# Altium footprint library PCB.PcbLib: 9 footprints
Each footprint in its own frame and in the unit in brackets; x right, y up, seen from the top. Pads: shape width x height; smd on the part's side, far side on the other; paste and mask are expansions set on the pad; w line width, h text height; cw(c..) or ccw(c..) is an arc to the next point about the centre after c.
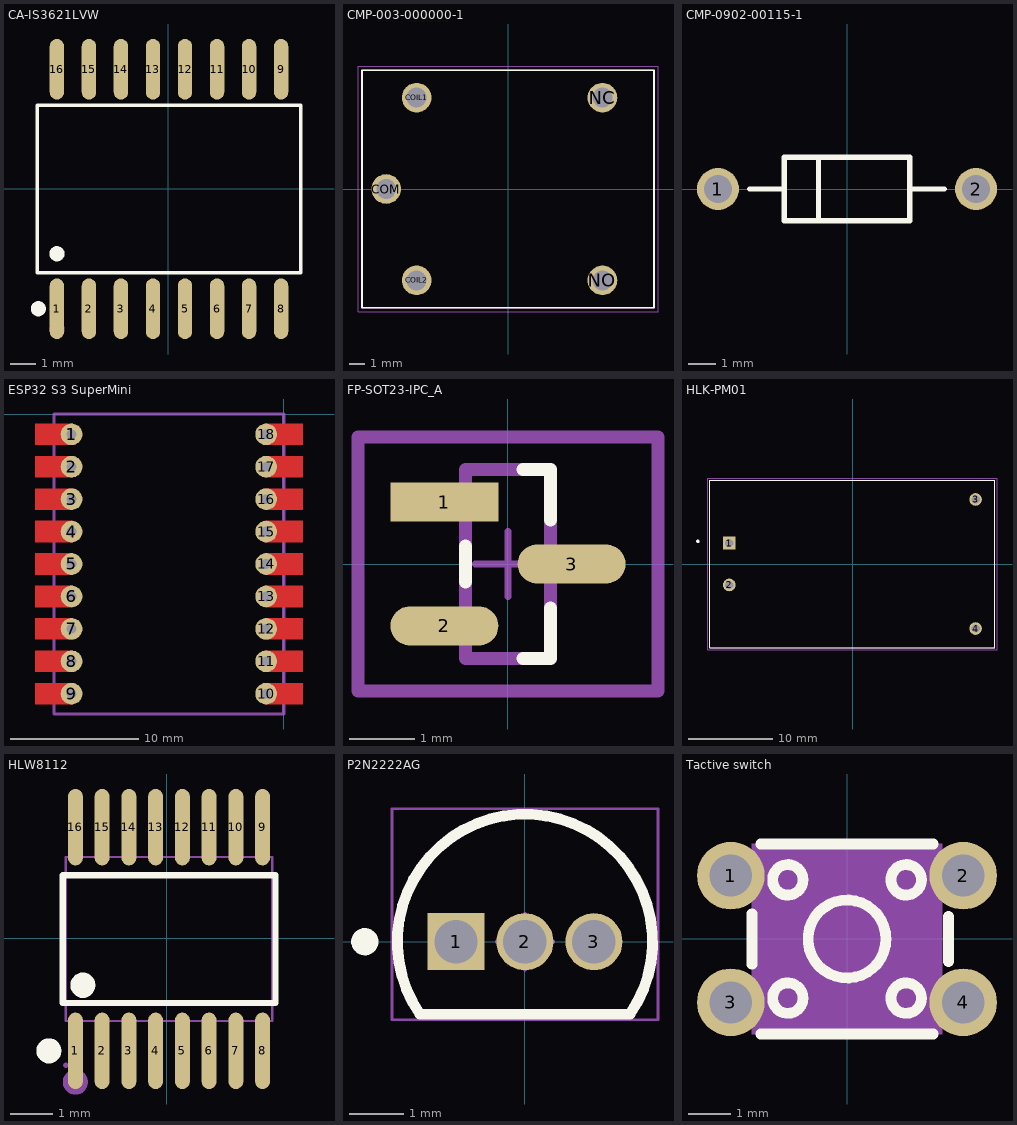
[diagram p0: the footprints below, top view; thin cyan lines are the x and y axes]

## CA-IS3621LVW [mm]
pads (16):
  oval 0.574x2.401 smd paste+0 mask+0.051: 1(-4.419,-4.769) 2(-3.149,-4.769) 3(-1.879,-4.769) 4(-0.609,-4.769) 5(0.661,-4.769) 6(1.931,-4.769) 7(3.201,-4.769) 8(4.471,-4.769) 9(4.471,4.732) 10(3.201,4.732) 11(1.931,4.732) 12(0.661,4.732) 13(-0.609,4.732) 14(-1.879,4.732) 15(-3.149,4.732) 16(-4.419,4.732)
Top Overlay:
  circle w0.3: c-4.419,-2.587 r0.15
  circle w0.3: c-5.158,-4.769 r0.15
  lines w0.152: -5.2,-3.34 -5.2,3.303 5.252,3.303 5.252,-3.34 -5.2,-3.34
Mechanical 15:
  circle w0.3: c-4.419,-5.581 r0.15
3D body "SO16 Wide 7.50mm.step": height 2.65, standoff 0, extent -5.15,-5.048 5.15,5.252

## CMP-003-000000-1 [mm]
pads (5):
  round 1.95 hole 1.3: COIL1(-6,6) COIL2(-6,-6) COM(-8,0) NC(6.2,6) NO(6.2,-6)
Top Overlay:
  lines w0.127: -9.6,-7.8 -9.6,7.8 9.6,7.8 9.6,-7.8 -9.6,-7.8
Mechanical 13:
  lines w0.127: -9.6,-7.8 -9.6,7.8 9.6,7.8 9.6,-7.8 -9.6,-7.8
Mechanical 15:
  lines w0.05: -9.85,-8.05 -9.85,8.05 9.85,8.05 9.85,-8.05 -9.85,-8.05
3D body "step_temp.STEP": height 15.8, standoff -3, extent -9.6,-7.8 9.6,7.8

## CMP-0902-00115-1 [mm]
pads (2):
  round 1.55 hole 1.05: 1(-4.77,0) 2(4.77,0)
Top Overlay:
  lines w0.2: -3.595,0 -2.325,0 ; -1.055,-1.175 -1.055,1.175 ; 2.325,0 3.595,0 ; -2.325,-1.175 2.325,-1.175 2.325,1.175 -2.325,1.175 -2.325,-1.175

## ESP32 S3 SuperMini [mm]
pads (18):
  round 1.7 hole 0.762: 1(-16.62,-1.59) 2(-16.62,-4.13) 3(-16.62,-6.67) 4(-16.62,-9.21) 5(-16.62,-11.75) 6(-16.62,-14.29) 7(-16.62,-16.83) 8(-16.62,-19.37) 9(-16.62,-21.91) 10(-1.38,-21.91) 11(-1.38,-19.37) 12(-1.38,-16.83) 13(-1.38,-14.29) 14(-1.38,-11.75) 15(-1.38,-9.21) 16(-1.38,-6.67) 17(-1.38,-4.13) 18(-1.38,-1.59)
Top Layer:
  rectangle: -19.5,-2.44 -16.5,-0.74
  rectangle: -19.5,-4.98 -16.5,-3.28
  rectangle: -19.5,-7.52 -16.5,-5.82
  rectangle: -19.5,-10.06 -16.5,-8.36
  rectangle: -19.5,-12.6 -16.5,-10.9
  rectangle: -19.5,-15.14 -16.5,-13.44
  rectangle: -19.5,-17.68 -16.5,-15.98
  rectangle: -19.5,-20.22 -16.5,-18.52
  rectangle: -19.473,-22.76 -16.473,-21.06
  rectangle: -1.5,-2.44 1.5,-0.74
  rectangle: -1.5,-4.98 1.5,-3.28
  rectangle: -1.5,-7.52 1.5,-5.82
  rectangle: -1.5,-10.06 1.5,-8.36
  rectangle: -1.5,-12.6 1.5,-10.9
  rectangle: -1.5,-15.14 1.5,-13.44
  rectangle: -1.5,-17.68 1.5,-15.98
  rectangle: -1.5,-20.22 1.5,-18.52
  rectangle: -1.473,-22.76 1.527,-21.06
Top Solder:
  region: 1.431,-21.138 -1.5,-21.138 -1.5,-22.687 1.431,-22.687
  region: 1.431,-18.598 -1.5,-18.598 -1.5,-20.147 1.431,-20.147
  region: 1.431,-16.058 -1.5,-16.058 -1.5,-17.607 1.431,-17.607
  region: 1.431,-13.518 -1.5,-13.518 -1.5,-15.067 1.431,-15.067
  region: 1.431,-10.978 -1.5,-10.978 -1.5,-12.527 1.431,-12.527
  region: 1.431,-8.438 -1.5,-8.438 -1.5,-9.987 1.431,-9.987
  region: 1.431,-5.898 -1.5,-5.898 -1.5,-7.447 1.431,-7.447
  region: 1.431,-3.358 -1.5,-3.358 -1.5,-4.907 1.431,-4.907
  region: 1.431,-0.818 -1.5,-0.818 -1.5,-2.367 1.431,-2.367
  rectangle: -19.431,-22.682 -16.5,-21.133
  rectangle: -19.431,-20.142 -16.5,-18.593
  rectangle: -19.431,-17.602 -16.5,-16.053
  rectangle: -19.431,-15.062 -16.5,-13.513
  rectangle: -19.431,-12.522 -16.5,-10.973
  rectangle: -19.431,-9.982 -16.5,-8.433
  rectangle: -19.431,-7.442 -16.5,-5.893
  rectangle: -19.431,-4.902 -16.5,-3.353
  rectangle: -19.431,-2.362 -16.5,-0.813
Mechanical 1:
  lines w0.254: -18,-23.5 0,-23.5 0,0 -18,0 -18,-23.5
3D body "ESP32-S3_Zero.step": height 4.91, standoff -0.01, extent -18.034,-23.485 -0.034,1.065

## FP-SOT23-IPC_A [mm]
pads (3):
  rect 1.655x0.602 smd paste+0 mask+0: 1(-0.975,0.95)
  rrect100% 1.655x0.602 smd paste+0 mask+0: 2(-0.975,-0.95) 3(0.975,0)
Top Overlay:
  lines w0.2: -0.65,-0.274 -0.65,0.274 ; 0.227,-1.45 0.65,-1.45 0.65,-0.676 ; 0.227,1.45 0.65,1.45 0.65,0.676
Top Assembly:
  lines w0.2: -2.303,-1.95 -2.303,1.95 2.303,1.95 2.303,-1.95 -2.303,-1.95
  text ".Designator" at 0,-0.001 h1
Top Courtyard:
  lines w0.2: -2.303,-1.95 -2.303,1.95 2.303,1.95 2.303,-1.95 -2.303,-1.95 ; -0.65,-1.45 -0.65,1.45 0.65,1.45 0.65,-1.45 -0.65,-1.45
Top Component Center:
  lines w0.1: -0.5,0 0.5,0 ; 0,-0.5 0,0.5
3D body "Trans_Nexperia_BC817-40_215_eec.STEP": height 0.25, standoff 0, extent -2.303,-1.95 2.303,1.95

## HLK-PM01 [mm]
pads (4):
  rect 1.508x1.508 / inner round 1.508 / far side rect 1.508x1.508 hole 1: 1(-14.725,2.5)
  round 1.508 hole 1: 2(-14.725,-2.5) 3(14.675,7.7) 4(14.675,-7.7)
Top Overlay:
  circle w0.2: c-18.476,2.7 r0.1
  lines w0.127: -17.025,-10 16.975,-10 16.975,10 -17.025,10 -17.025,-10
Mechanical 13:
  circle w0.2: c-18.476,2.7 r0.1
  lines w0.127: -17.025,-10 16.975,-10 16.975,10 -17.025,10 -17.025,-10
Mechanical 15:
  lines w0.05: -17.275,-10.25 17.225,-10.25 17.225,10.25 -17.275,10.25 -17.275,-10.25
3D body "step_temp.STEP": height 15, standoff -5, extent -17.025,-10.1 16.975,10.1

## HLW8112 [mil]
pads (16):
  oval 14x71.4 smd: 1(-85.3,-105.3) 2(-60.3,-105.3) 3(-35.3,-105.3) 4(-10.3,-105.3) 5(14.7,-105.3) 6(39.7,-105.3) 7(64.7,-105.3) 8(89.7,-105.3) 9(89.7,103.8) 10(64.7,103.8) 11(39.7,103.8) 12(14.7,103.8) 13(-10.3,103.8) 14(-35.3,103.8) 15(-60.3,103.8) 16(-85.3,103.8)
Top Overlay:
  lines w6: -97.3,-60.6 101.8,-60.6 101.8,59 -97.3,59 -97.3,-60.6
  lines w11.8: -116,-105.3 -115.6,-103.3 -114.6,-101.5 -113,-100.2 -111.1,-99.5 -109.1,-99.5 -107.1,-100.2 -105.6,-101.5 -104.5,-103.3 -104.2,-105.3 -104.5,-107.3 -105.6,-109.1 -107.1,-110.4 -109.1,-111.1 -111.1,-111.1 -113,-110.4 -114.6,-109.1 -115.6,-107.3 -116,-105.3 ; -84.2,-43.9 -83.8,-41.9 -82.8,-40.1 -81.2,-38.8 -79.3,-38.1 -77.3,-38.1 -75.3,-38.8 -73.8,-40.1 -72.7,-41.9 -72.4,-43.9 -72.7,-46 -73.8,-47.7 -75.3,-49.1 -77.3,-49.8 -79.3,-49.8 -81.2,-49.1 -82.8,-47.7 -83.8,-46 -84.2,-43.9
Mechanical 2:
  lines w11.8: -91.2,-134.5 -90.8,-132.5 -89.8,-130.7 -88.2,-129.4 -86.3,-128.7 -84.3,-128.7 -82.3,-129.4 -80.8,-130.7 -79.7,-132.5 -79.4,-134.5 -79.7,-136.5 -80.8,-138.3 -82.3,-139.6 -84.3,-140.3 -86.3,-140.3 -88.2,-139.6 -89.8,-138.3 -90.8,-136.5 -91.2,-134.5
Mechanical 6:
  lines w2: -94.3,-77.4 98.8,-77.4 98.8,75.9 -94.3,75.9 -94.3,-77.4
Mechanical 7:
  region: -90.3,-93.8 -90.3,-77 -80.3,-77 -80.3,-93.8
  region: -65.3,-93.8 -65.3,-77 -55.3,-77 -55.3,-93.8
  region: -40.3,-93.8 -40.3,-77 -30.3,-77 -30.3,-93.8
  region: -15.3,-93.8 -15.3,-77 -5.3,-77 -5.3,-93.8
  region: 9.7,-93.8 9.7,-77 19.7,-77 19.7,-93.8
  region: 34.7,-93.8 34.7,-77 44.7,-77 44.7,-93.8
  region: 59.7,-93.8 59.7,-77 69.7,-77 69.7,-93.8
  region: 84.7,-93.8 84.7,-77 94.7,-77 94.7,-93.8
  region: -90.3,92.3 -90.3,75.5 -80.3,75.5 -80.3,92.3
  region: -65.3,92.3 -65.3,75.5 -55.3,75.5 -55.3,92.3
  region: -40.3,92.3 -40.3,75.5 -30.3,75.5 -30.3,92.3
  region: -15.3,92.3 -15.3,75.5 -5.3,75.5 -5.3,92.3
  region: 9.7,92.3 9.7,75.5 19.7,75.5 19.7,92.3
  region: 34.7,92.3 34.7,75.5 44.7,75.5 44.7,92.3
  region: 59.7,92.3 59.7,75.5 69.7,75.5 69.7,92.3
  region: 84.7,92.3 84.7,75.5 94.7,75.5 94.7,92.3
Mechanical 8:
  region: -92,-118.8 -92.3,-120 -93.4,-120.9 -94.7,-121.1 -95.9,-120.6 -96.6,-119.4 -96.6,-118.1 -95.9,-117 -94.7,-116.4 -93.4,-116.6 -92.3,-117.5
Mechanical 9:
  region: -90.3,-118.8 -90.3,-93.4 -80.3,-93.4 -80.3,-118.8
  region: -65.3,-118.8 -65.3,-93.4 -55.3,-93.4 -55.3,-118.8
  region: -40.3,-118.8 -40.3,-93.4 -30.3,-93.4 -30.3,-118.8
  region: -15.3,-118.8 -15.3,-93.4 -5.3,-93.4 -5.3,-118.8
  region: 9.7,-118.8 9.7,-93.4 19.7,-93.4 19.7,-118.8
  region: 34.7,-118.8 34.7,-93.4 44.7,-93.4 44.7,-118.8
  region: 59.7,-118.8 59.7,-93.4 69.7,-93.4 69.7,-118.8
  region: 84.7,-118.8 84.7,-93.4 94.7,-93.4 94.7,-118.8
  region: -90.3,117.3 -90.3,91.9 -80.3,91.9 -80.3,117.3
  region: -65.3,117.3 -65.3,91.9 -55.3,91.9 -55.3,117.3
  region: -40.3,117.3 -40.3,91.9 -30.3,91.9 -30.3,117.3
  region: -15.3,117.3 -15.3,91.9 -5.3,91.9 -5.3,117.3
  region: 9.7,117.3 9.7,91.9 19.7,91.9 19.7,117.3
  region: 34.7,117.3 34.7,91.9 44.7,91.9 44.7,117.3
  region: 59.7,117.3 59.7,91.9 69.7,91.9 69.7,117.3
  region: 84.7,117.3 84.7,91.9 94.7,91.9 94.7,117.3

## P2N2222AG [mm]
pads (3):
  rect 1.05x1.05 hole 0.8: 1(-1.27,0)
  round 1.05 hole 0.8: 2(0,0) 3(1.27,0)
Top Overlay:
  circle w0.25: c-2.95,0 r0.125
  lines w0.2: -1.934,-1.335 cw(c0,0) 1.934,-1.335 -1.934,-1.335
Mechanical 13:
  lines w0.1: -1.934,-1.335 cw(c0,0) 1.934,-1.335 -1.934,-1.335
Mechanical 15:
  lines w0.05: -2.45,-1.435 2.45,-1.435 2.45,2.45 -2.45,2.45 -2.45,-1.435
  lines w0.1: -0.5,0 0.5,0 ; 0,-0.5 0,0.5
3D body: height 7.87, standoff 2.54, extent -2.349,-1.334 2.357,2.359

## Tactive switch [mm]
pads (4):
  round 1.6 hole 1: 1(-2.75,1.5) 2(2.75,1.5) 3(-2.75,-1.5) 4(2.75,-1.5)
Top Overlay:
  circle w0.254: c0,0 r0.922
  circle w0.254: c1.4,1.4 r0.361
  circle w0.254: c-1.4,1.4 r0.361
  circle w0.254: c-1.4,-1.4 r0.361
  circle w0.254: c1.4,-1.4 r0.361
  lines w0.254: -2.25,-0.599 -2.25,0.598 ; -2.043,-2.25 2.043,-2.25 ; -2.044,2.25 2.044,2.25 ; 2.4,-0.53 2.4,0.53
Mechanical 4:
  region: -2.25,-2.25 -2.25,2.25 2.25,2.25 2.25,-2.25
Top Assembly:
  region: 2.6,-1.15 2.9,-1.15 2.9,-1.85 2.6,-1.85
  region: 2.6,1.85 2.9,1.85 2.9,1.15 2.6,1.15
  region: -2.9,-1.15 -2.6,-1.15 -2.6,-1.85 -2.9,-1.85
  region: -2.9,1.85 -2.6,1.85 -2.6,1.15 -2.9,1.15
  pour cut-out: -2.15,1.15 -2.9,1.15 -2.9,1.85 -2.15,1.85
  pour cut-out: 2.9,1.15 2.15,1.15 2.15,1.85 2.9,1.85
  pour cut-out: 2.9,-1.85 2.15,-1.85 2.15,-1.15 2.9,-1.15
  pour cut-out: -2.15,-1.85 -2.9,-1.85 -2.9,-1.15 -2.15,-1.15